# Altium schematic symbol library smtso-m2-10et.SchLib: 1 symbol
Pins are listed as number, name and electrical type; pins without a type are passive.

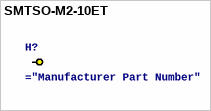
[diagram p0: symbol SMTSO-M2-10ET]

## SMTSO-M2-10ET
designator H?
Standoff M2 x 0.4, tin-plated, 10 mm height
pins: 1